# Altium footprint library MLACHP_P.PCBLIB: 129 footprints (part 2 of 9)
Each footprint in its own frame and in the unit in brackets; x right, y up, seen from the top. Pads: shape width x height; smd on the part's side, far side on the other; paste and mask are expansions set on the pad; w line width, h text height; cw(c..) or ccw(c..) is an arc to the next point about the centre after c.
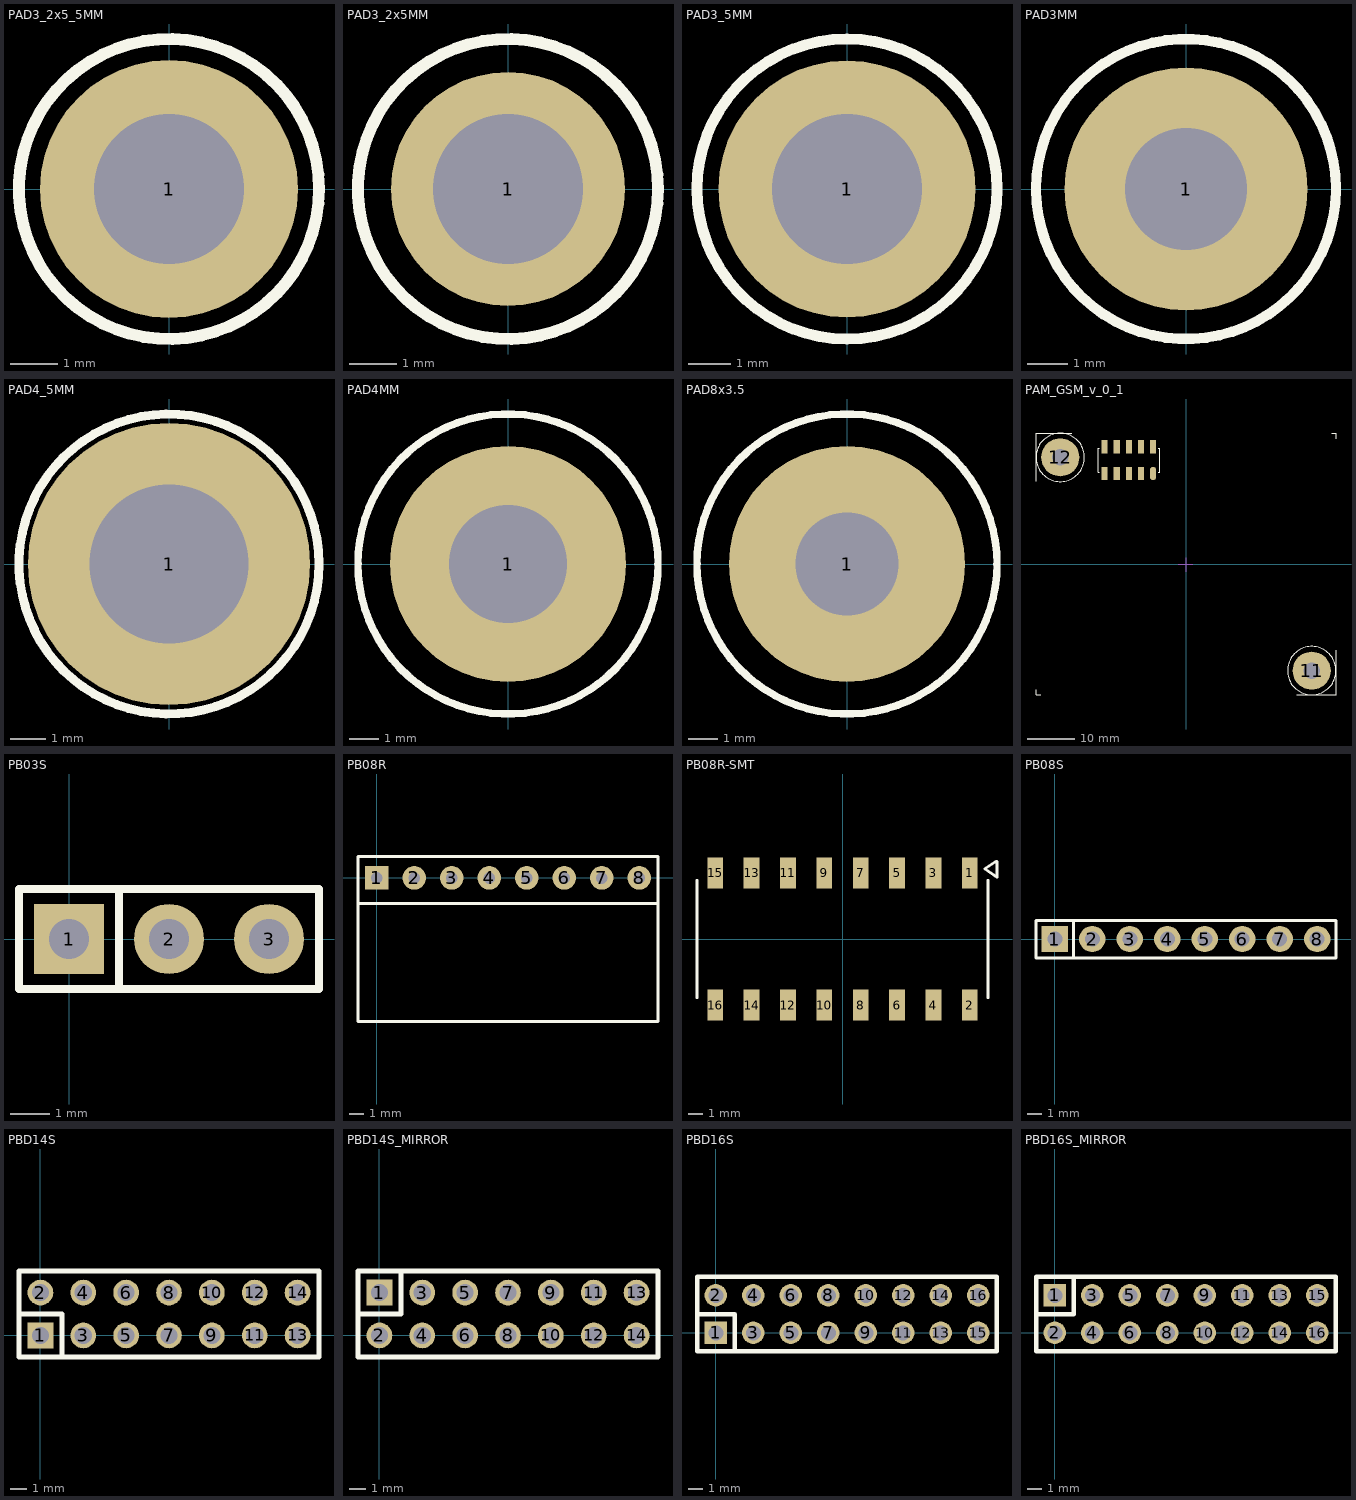
[diagram p1: the footprints below, top view; thin cyan lines are the x and y axes]

## PAD3_2x5_5MM [mm]
pads (1):
  round 5.5 hole 3.2: 1(0,0)
TopOverlay:
  circle w0.254: c0,0 r3.2

## PAD3_2x5MM [mm]
pads (1):
  round 5 hole 3.2: 1(0,0)
TopOverlay:
  circle w0.254: c0,0 r3.2

## PAD3_5MM [mm]
pads (1):
  round 6 hole 3.5: 1(0,0)
TopOverlay:
  circle w0.254: c0,0 r3.5

## PAD3MM [mm]
pads (1):
  round 6 hole 3: 1(0,0)
TopOverlay:
  circle w0.254: c0,0 r3.7

## PAD4_5MM [mm]
pads (1):
  round 8 hole 4.5: 1(0,0)
TopOverlay:
  circle w0.254: c0,0 r4.25

## PAD4MM [mm]
pads (1):
  round 8 hole 4: 1(0,0)
TopOverlay:
  circle w0.254: c0,0 r5.08

## PAD8x3.5 [mm]
pads (1):
  round 8 hole 3.5: 1(0,0)
TopOverlay:
  circle w0.254: c0,0 r5.08

## PAM_GSM_v_0_1 [mm]
pads (12):
  oval 1.27x2.794 smd: 1(-6.92,19.006)
  rect 1.27x2.794 smd: 2(-6.92,24.594) 3(-9.46,19.006) 4(-9.46,24.594) 5(-12,19.006) 6(-12,24.594) 7(-14.54,19.006) 8(-14.54,24.594) 9(-17.08,19.006) 10(-17.08,24.594)
  round 8 hole 3.5: 11(26.4,-22.4) 12(-26.4,22.4)
TopOverlay:
  circle w0.254: c26.4,-22.4 r5.08
  circle w0.254: c-26.4,22.4 r5.08
  lines w0.254: -31.5,-26.4 -31.5,-27.5 -30.5,-27.5 ; -31.5,17.4 -31.5,27.5 -24,27.5 ; -18.223,19.26 -18.477,19.26 -18.477,24.34 -18.223,24.34 ; -5.777,19.26 -5.523,19.26 -5.523,24.34 -5.777,24.34 ; 23.3,-27.5 31.5,-27.5 31.5,-18.1 ; 30.6,27.5 31.5,27.5 31.5,26.3
Mechanical2:
  lines w0.254: -1.6,0 0,0 ; 0,-1.6 0,0 ; 0,1.3 0,0 ; 1.45,0 0,0
3D body: height 0.64, standoff 0, extent -7.301,23.445 -6.539,25.477
3D body: height 17.98, standoff 0, extent -7.301,22.683 -6.539,23.445
3D body: height 0.64, standoff 0, extent -9.841,23.445 -9.079,25.477
3D body: height 17.98, standoff 0, extent -9.841,22.683 -9.079,23.445
3D body: height 0.64, standoff 0, extent -12.381,23.445 -11.619,25.477
3D body: height 17.98, standoff 0, extent -12.381,22.683 -11.619,23.445
3D body: height 0.64, standoff 0, extent -14.921,23.445 -14.159,25.477
3D body: height 17.98, standoff 0, extent -14.921,22.683 -14.159,23.445
3D body: height 0.64, standoff 0, extent -17.461,23.445 -16.699,25.477
3D body: height 17.98, standoff 0, extent -17.461,22.683 -16.699,23.445
3D body: height 0.64, standoff 0, extent -17.461,18.123 -16.699,20.155
3D body: height 17.98, standoff 0, extent -17.461,20.155 -16.699,20.917
3D body: height 0.64, standoff 0, extent -14.921,18.123 -14.159,20.155
3D body: height 17.98, standoff 0, extent -14.921,20.155 -14.159,20.917
3D body: height 0.64, standoff 0, extent -12.381,18.123 -11.619,20.155
3D body: height 17.98, standoff 0, extent -12.381,20.155 -11.619,20.917
3D body: height 0.64, standoff 0, extent -9.841,18.123 -9.079,20.155
3D body: height 17.98, standoff 0, extent -9.841,20.155 -9.079,20.917
3D body: height 3.8, standoff 1.26, extent -18.35,19.266 -5.65,24.346
3D body: height 17.98, standoff 0, extent -7.301,20.155 -6.539,20.917
3D body: height 0.64, standoff 0, extent -7.301,18.123 -6.539,20.155
3D body: height 11.98, standoff 9.44, extent -18.35,19.266 -5.65,24.346

## PB03S [mil]
pads (3):
  rect 70x70 hole 40: 1(0,0)
  round 70 hole 40: 2(100,0) 3(200,0)
TopOverlay:
  lines w8: 50,-50 50,50 ; -50,-50 -50,50 250,50 250,-50 -50,-50
3D body: height 314.96, standoff 0, extent 150,-49.21 200,49.21
3D body: height 314.96, standoff 0, extent 200,-49.21 250,49.21
3D body: height 314.96, standoff 0, extent 50,-49.21 100,49.21
3D body: height 314.96, standoff 0, extent 100,-49.21 150,49.21
3D body: height 314.96, standoff 0, extent 0,-49.21 50,49.21
3D body: height 314.96, standoff 0, extent -50,-49.21 0,49.21

## PB08R [mm]
pads (8):
  rect 1.6x1.6 hole 0.8: 1(0,0)
  round 1.6 hole 0.8: 2(2.54,0) 3(5.08,0) 4(7.62,0) 5(10.16,0) 6(12.7,0) 7(15.24,0) 8(17.78,0)
TopOverlay:
  lines w0.2: -1.27,-1.725 -1.27,1.45 19.05,1.45 19.05,-1.725 ; -1.27,-1.725 19.05,-1.725 ; -1.27,-1.725 -1.27,-9.725 19.05,-9.725 19.05,-1.725
3D body: height 1.43, standoff 1.07, extent 12.4,-1.75 13,0.15
3D body: height 1.43, standoff 1.07, extent 9.86,-1.75 10.46,0.15
3D body: height 1.43, standoff 1.07, extent 7.32,-1.75 7.92,0.15
3D body: height 1.43, standoff 1.07, extent 4.78,-1.75 5.38,0.15
3D body: height 1.43, standoff 1.07, extent 2.24,-1.75 2.84,0.15
3D body: height 1.43, standoff -2, extent -0.3,-0.2 0.3,0.15
3D body: height 2.5, standoff 0, extent -1.27,-9.725 -0.5,-1.725
3D body: height 0.75, standoff 0, extent -0.5,-9.725 0.5,-1.725
3D body: height 2.5, standoff 1.75, extent -0.5,-9.725 0.5,-1.725
3D body: height 2.5, standoff 0, extent 0.5,-9.725 1.27,-1.725
3D body: height 2.5, standoff 0, extent 3.04,-9.725 3.81,-1.725
3D body: height 2.5, standoff 1.75, extent 2.04,-9.725 3.04,-1.725
3D body: height 0.75, standoff 0, extent 2.04,-9.725 3.04,-1.725
3D body: height 2.5, standoff 0, extent 1.27,-9.725 2.04,-1.725
3D body: height 2.5, standoff 0, extent 5.58,-9.725 6.35,-1.725
3D body: height 2.5, standoff 1.75, extent 4.58,-9.725 5.58,-1.725
3D body: height 0.75, standoff 0, extent 4.58,-9.725 5.58,-1.725
3D body: height 2.5, standoff 0, extent 3.81,-9.725 4.58,-1.725
3D body: height 2.5, standoff 0, extent 8.12,-9.725 8.89,-1.725
3D body: height 2.5, standoff 1.75, extent 7.12,-9.725 8.12,-1.725
3D body: height 0.75, standoff 0, extent 7.12,-9.725 8.12,-1.725
3D body: height 2.5, standoff 0, extent 6.35,-9.725 7.12,-1.725
3D body: height 2.5, standoff 0, extent 10.66,-9.725 11.43,-1.725
3D body: height 2.5, standoff 1.75, extent 9.66,-9.725 10.66,-1.725
3D body: height 0.75, standoff 0, extent 9.66,-9.725 10.66,-1.725
3D body: height 2.5, standoff 0, extent 8.89,-9.725 9.66,-1.725
3D body: height 2.5, standoff 0, extent 13.2,-9.725 13.97,-1.725
3D body: height 2.5, standoff 1.75, extent 12.2,-9.725 13.2,-1.725
3D body: height 0.75, standoff 0, extent 12.2,-9.725 13.2,-1.725
3D body: height 2.5, standoff 0, extent 11.43,-9.725 12.2,-1.725
3D body: height 2.5, standoff 0, extent 15.74,-9.725 16.51,-1.725
3D body: height 2.5, standoff 1.75, extent 14.74,-9.725 15.74,-1.725
3D body: height 0.75, standoff 0, extent 14.74,-9.725 15.74,-1.725
3D body: height 2.5, standoff 0, extent 13.97,-9.725 14.74,-1.725
3D body: height 2.5, standoff 0, extent 18.28,-9.725 19.05,-1.725
3D body: height 2.5, standoff 1.75, extent 17.28,-9.725 18.28,-1.725
3D body: height 0.75, standoff 0, extent 17.28,-9.725 18.28,-1.725
3D body: height 2.5, standoff 0, extent 16.51,-9.725 17.28,-1.725
3D body: height 1.43, standoff 1.07, extent -0.3,-1.75 0.3,0.15
3D body: height 1.43, standoff -2, extent 2.24,-0.2 2.84,0.15
3D body: height 1.43, standoff -2, extent 4.78,-0.2 5.38,0.15
3D body: height 1.43, standoff -2, extent 7.32,-0.2 7.92,0.15
3D body: height 1.43, standoff -2, extent 9.86,-0.2 10.46,0.15
3D body: height 1.43, standoff -2, extent 12.4,-0.2 13,0.15
3D body: height 1.43, standoff -2, extent 14.94,-0.2 15.54,0.15
3D body: height 1.43, standoff 1.07, extent 14.94,-1.75 15.54,0.15
3D body: height 1.43, standoff -2, extent 17.48,-0.2 18.08,0.15
3D body: height 1.43, standoff 1.07, extent 17.48,-1.75 18.08,0.15

## PB08R-SMT [mm]
pads (16):
  rect 1.1x2.165 smd: 1(8.89,4.617) 2(8.89,-4.617) 3(6.35,4.617) 4(6.35,-4.617) 5(3.81,4.617) 6(3.81,-4.617) 7(1.27,4.617) 8(1.27,-4.617) 9(-1.27,4.617) 10(-1.27,-4.617) 11(-3.81,4.617) 12(-3.81,-4.617) 13(-6.35,4.617) 14(-6.35,-4.617) 15(-8.89,4.617) 16(-8.89,-4.617)
TopOverlay:
  lines w0.2: -10.16,-4.1 -10.16,4.1 ; 10.16,-4.1 10.16,4.1 ; 9.932,4.909 10.785,4.307 10.785,5.411 10.735,5.411 9.932,4.909
3D body: height 2.05, standoff 0, extent 8.54,4.068 9.24,4.367
3D body: height 0.25, standoff 0, extent 8.54,4.068 9.24,5.25
3D body: height 3.9, standoff 0.5, extent 7.62,-4.1 8.44,4.1
3D body: height 3.9, standoff 2.95, extent 8.44,-4.1 9.34,4.1
3D body: height 3.9, standoff 0.5, extent 9.34,-4.1 10.16,4.1
3D body: height 2.05, standoff 0.5, extent 8.44,-4.1 9.34,4.1
3D body: height 0.25, standoff 0, extent 8.54,-5.25 9.24,-4.068
3D body: height 2.05, standoff 0, extent 8.54,-4.367 9.24,-4.068
3D body: height 2.05, standoff 0, extent 6,-4.367 6.7,-4.068
3D body: height 0.25, standoff 0, extent 6,-5.25 6.7,-4.068
3D body: height 2.05, standoff 0.5, extent 5.9,-4.1 6.8,4.1
3D body: height 3.9, standoff 0.5, extent 6.8,-4.1 7.62,4.1
3D body: height 3.9, standoff 2.95, extent 5.9,-4.1 6.8,4.1
3D body: height 3.9, standoff 0.5, extent 5.08,-4.1 5.9,4.1
3D body: height 0.25, standoff 0, extent 6,4.068 6.7,5.25
3D body: height 2.05, standoff 0, extent 6,4.068 6.7,4.367
3D body: height 2.05, standoff 0, extent 3.46,-4.367 4.16,-4.068
3D body: height 0.25, standoff 0, extent 3.46,-5.25 4.16,-4.068
3D body: height 2.05, standoff 0.5, extent 3.36,-4.1 4.26,4.1
3D body: height 3.9, standoff 0.5, extent 4.26,-4.1 5.08,4.1
3D body: height 3.9, standoff 2.95, extent 3.36,-4.1 4.26,4.1
3D body: height 3.9, standoff 0.5, extent 2.54,-4.1 3.36,4.1
3D body: height 0.25, standoff 0, extent 3.46,4.068 4.16,5.25
3D body: height 2.05, standoff 0, extent 3.46,4.068 4.16,4.367
3D body: height 2.05, standoff 0, extent 0.92,-4.367 1.62,-4.068
3D body: height 0.25, standoff 0, extent 0.92,-5.25 1.62,-4.068
3D body: height 2.05, standoff 0.5, extent 0.82,-4.1 1.72,4.1
3D body: height 3.9, standoff 0.5, extent 1.72,-4.1 2.54,4.1
3D body: height 3.9, standoff 2.95, extent 0.82,-4.1 1.72,4.1
3D body: height 3.9, standoff 0.5, extent 0,-4.1 0.82,4.1
3D body: height 0.25, standoff 0, extent 0.92,4.068 1.62,5.25
3D body: height 2.05, standoff 0, extent 0.92,4.068 1.62,4.367
3D body: height 2.05, standoff 0, extent -1.62,-4.367 -0.92,-4.068
3D body: height 0.25, standoff 0, extent -1.62,-5.25 -0.92,-4.068
3D body: height 2.05, standoff 0.5, extent -1.72,-4.1 -0.82,4.1
3D body: height 3.9, standoff 0.5, extent -0.82,-4.1 0,4.1
3D body: height 3.9, standoff 2.95, extent -1.72,-4.1 -0.82,4.1
3D body: height 3.9, standoff 0.5, extent -2.54,-4.1 -1.72,4.1
3D body: height 0.25, standoff 0, extent -1.62,4.068 -0.92,5.25
3D body: height 2.05, standoff 0, extent -1.62,4.068 -0.92,4.367
3D body: height 2.05, standoff 0, extent -4.16,-4.367 -3.46,-4.068
3D body: height 0.25, standoff 0, extent -4.16,-5.25 -3.46,-4.068
3D body: height 2.05, standoff 0.5, extent -4.26,-4.1 -3.36,4.1
3D body: height 3.9, standoff 0.5, extent -3.36,-4.1 -2.54,4.1
3D body: height 3.9, standoff 2.95, extent -4.26,-4.1 -3.36,4.1
3D body: height 3.9, standoff 0.5, extent -5.08,-4.1 -4.26,4.1
3D body: height 0.25, standoff 0, extent -4.16,4.068 -3.46,5.25
3D body: height 2.05, standoff 0, extent -4.16,4.068 -3.46,4.367
3D body: height 2.05, standoff 0, extent -6.7,-4.367 -6,-4.068
3D body: height 0.25, standoff 0, extent -6.7,-5.25 -6,-4.068
3D body: height 2.05, standoff 0.5, extent -6.8,-4.1 -5.9,4.1
3D body: height 3.9, standoff 0.5, extent -5.9,-4.1 -5.08,4.1
3D body: height 3.9, standoff 2.95, extent -6.8,-4.1 -5.9,4.1
3D body: height 3.9, standoff 0.5, extent -7.62,-4.1 -6.8,4.1
3D body: height 0.25, standoff 0, extent -6.7,4.068 -6,5.25
3D body: height 2.05, standoff 0, extent -6.7,4.068 -6,4.367
3D body: height 2.05, standoff 0, extent -9.24,-4.367 -8.54,-4.068
3D body: height 0.25, standoff 0, extent -9.24,-5.25 -8.54,-4.068
3D body: height 2.05, standoff 0.5, extent -9.34,-4.1 -8.44,4.1
3D body: height 3.9, standoff 0.5, extent -8.44,-4.1 -7.62,4.1
3D body: height 3.9, standoff 2.95, extent -9.34,-4.1 -8.44,4.1
3D body: height 3.9, standoff 0.5, extent -10.16,-4.1 -9.34,4.1
3D body: height 0.25, standoff 0, extent -9.24,4.068 -8.54,5.25
3D body: height 2.05, standoff 0, extent -9.24,4.068 -8.54,4.367

## PB08S [mil]
pads (8):
  rect 70x70 hole 40: 1(0,0)
  round 70 hole 40: 2(100,0) 3(200,0) 4(300,0) 5(400,0) 6(500,0) 7(600,0) 8(700,0)
TopOverlay:
  lines w8: 50,-50 50,50 ; -50,-50 750,-50 750,50 -50,50 -50,-50
3D body: height 314.96, standoff 0, extent -50,-49.21 0,49.21
3D body: height 314.96, standoff 0, extent 0,-49.21 50,49.21
3D body: height 314.96, standoff 0, extent 100,-49.21 150,49.21
3D body: height 314.96, standoff 0, extent 50,-49.21 100,49.21
3D body: height 314.96, standoff 0, extent 200,-49.21 250,49.21
3D body: height 314.96, standoff 0, extent 150,-49.21 200,49.21
3D body: height 314.96, standoff 0, extent 300,-49.21 350,49.21
3D body: height 314.96, standoff 0, extent 250,-49.21 300,49.21
3D body: height 314.96, standoff 0, extent 400,-49.21 450,49.21
3D body: height 314.96, standoff 0, extent 350,-49.21 400,49.21
3D body: height 314.96, standoff 0, extent 500,-49.21 550,49.21
3D body: height 314.96, standoff 0, extent 450,-49.21 500,49.21
3D body: height 314.96, standoff 0, extent 600,-49.21 650,49.21
3D body: height 314.96, standoff 0, extent 550,-49.21 600,49.21
3D body: height 314.96, standoff 0, extent 700,-49.21 750,49.21
3D body: height 314.96, standoff 0, extent 650,-49.21 700,49.21

## PBD14S [mil]
pads (14):
  rect 60x60 hole 40: 1(0,0)
  round 60 hole 40: 2(0,100) 3(100,0) 4(100,100) 5(200,0) 6(200,100) 7(300,0) 8(300,100) 9(400,0) 10(400,100) 11(500,0) 12(500,100) 13(600,0) 14(600,100)
TopOverlay:
  lines w12: -50,50 50,50 50,-50 ; -50,-50 -50,150 650,150 650,-50 -50,-50
3D body: height 314.96, standoff 0, extent -50,-50 0,150
3D body: height 314.96, standoff 0, extent 600,-50 650,150
3D body: height 314.96, standoff 0, extent 500,-50 600,150
3D body: height 314.96, standoff 0, extent 400,-50 500,150
3D body: height 314.96, standoff 0, extent 300,-50 400,150
3D body: height 314.96, standoff 0, extent 200,-50 300,150
3D body: height 314.96, standoff 0, extent 100,-50 200,150
3D body: height 314.96, standoff 0, extent 0,-50 100,150
3D body: height 275.59, standoff -118.11, extent -20,-20 20,20
3D body: height 275.59, standoff -118.11, extent -20,80 20,120
3D body: height 275.59, standoff -118.11, extent 80,80 120,120
3D body: height 275.59, standoff -118.11, extent 80,-20 120,20
3D body: height 275.59, standoff -118.11, extent 180,80 220,120
3D body: height 275.59, standoff -118.11, extent 180,-20 220,20
3D body: height 275.59, standoff -118.11, extent 280,80 320,120
3D body: height 275.59, standoff -118.11, extent 280,-20 320,20
3D body: height 275.59, standoff -118.11, extent 380,80 420,120
3D body: height 275.59, standoff -118.11, extent 380,-20 420,20
3D body: height 275.59, standoff -118.11, extent 480,80 520,120
3D body: height 275.59, standoff -118.11, extent 480,-20 520,20
3D body: height 275.59, standoff -118.11, extent 580,80 620,120
3D body: height 275.59, standoff -118.11, extent 580,-20 620,20

## PBD14S_MIRROR [mil]
pads (14):
  rect 60x60 hole 40: 1(0,100)
  round 60 hole 40: 2(0,0) 3(100,100) 4(100,0) 5(200,100) 6(200,0) 7(300,100) 8(300,0) 9(400,100) 10(400,0) 11(500,100) 12(500,0) 13(600,100) 14(600,0)
TopOverlay:
  lines w12: -50,50 50,50 50,150 ; -50,-50 -50,150 650,150 650,-50 -50,-50
3D body: height 314.96, standoff 0, extent -50,-50 0,150
3D body: height 314.96, standoff 0, extent 600,-50 650,150
3D body: height 314.96, standoff 0, extent 500,-50 600,150
3D body: height 314.96, standoff 0, extent 400,-50 500,150
3D body: height 314.96, standoff 0, extent 300,-50 400,150
3D body: height 314.96, standoff 0, extent 200,-50 300,150
3D body: height 314.96, standoff 0, extent 100,-50 200,150
3D body: height 314.96, standoff 0, extent 0,-50 100,150
3D body: height 275.59, standoff -118.11, extent -20,80 20,120
3D body: height 275.59, standoff -118.11, extent -20,-20 20,20
3D body: height 275.59, standoff -118.11, extent 80,-20 120,20
3D body: height 275.59, standoff -118.11, extent 80,80 120,120
3D body: height 275.59, standoff -118.11, extent 180,-20 220,20
3D body: height 275.59, standoff -118.11, extent 180,80 220,120
3D body: height 275.59, standoff -118.11, extent 280,-20 320,20
3D body: height 275.59, standoff -118.11, extent 280,80 320,120
3D body: height 275.59, standoff -118.11, extent 380,-20 420,20
3D body: height 275.59, standoff -118.11, extent 380,80 420,120
3D body: height 275.59, standoff -118.11, extent 480,-20 520,20
3D body: height 275.59, standoff -118.11, extent 480,80 520,120
3D body: height 275.59, standoff -118.11, extent 580,-20 620,20
3D body: height 275.59, standoff -118.11, extent 580,80 620,120

## PBD16S [mil]
pads (16):
  rect 60x60 hole 40: 1(0,0)
  round 60 hole 40: 2(0,100) 3(100,0) 4(100,100) 5(200,0) 6(200,100) 7(300,0) 8(300,100) 9(400,0) 10(400,100) 11(500,0) 12(500,100) 13(600,0) 14(600,100) 15(700,0) 16(700,100)
TopOverlay:
  lines w12: -50,50 50,50 50,-50 ; -50,-50 -50,150 750,150 750,-50 -50,-50
3D body: height 314.96, standoff 0, extent -50,-50 0,150
3D body: height 314.96, standoff 0, extent 700,-50 750,150
3D body: height 314.96, standoff 0, extent 600,-50 700,150
3D body: height 314.96, standoff 0, extent 500,-50 600,150
3D body: height 314.96, standoff 0, extent 400,-50 500,150
3D body: height 314.96, standoff 0, extent 300,-50 400,150
3D body: height 314.96, standoff 0, extent 200,-50 300,150
3D body: height 314.96, standoff 0, extent 100,-50 200,150
3D body: height 314.96, standoff 0, extent 0,-50 100,150
3D body: height 275.59, standoff -118.11, extent -20,-20 20,20
3D body: height 275.59, standoff -118.11, extent -20,80 20,120
3D body: height 275.59, standoff -118.11, extent 80,80 120,120
3D body: height 275.59, standoff -118.11, extent 80,-20 120,20
3D body: height 275.59, standoff -118.11, extent 180,80 220,120
3D body: height 275.59, standoff -118.11, extent 180,-20 220,20
3D body: height 275.59, standoff -118.11, extent 280,80 320,120
3D body: height 275.59, standoff -118.11, extent 280,-20 320,20
3D body: height 275.59, standoff -118.11, extent 380,80 420,120
3D body: height 275.59, standoff -118.11, extent 380,-20 420,20
3D body: height 275.59, standoff -118.11, extent 480,80 520,120
3D body: height 275.59, standoff -118.11, extent 480,-20 520,20
3D body: height 275.59, standoff -118.11, extent 580,80 620,120
3D body: height 275.59, standoff -118.11, extent 580,-20 620,20
3D body: height 275.59, standoff -118.11, extent 680,80 720,120
3D body: height 275.59, standoff -118.11, extent 680,-20 720,20

## PBD16S_MIRROR [mil]
pads (16):
  rect 60x60 hole 40: 1(0,100)
  round 60 hole 40: 2(0,0) 3(100,100) 4(100,0) 5(200,100) 6(200,0) 7(300,100) 8(300,0) 9(400,100) 10(400,0) 11(500,100) 12(500,0) 13(600,100) 14(600,0) 15(700,100) 16(700,0)
TopOverlay:
  lines w12: -50,50 50,50 50,150 ; -50,-50 750,-50 750,150 -50,150 -50,-50
3D body: height 275.59, standoff -118.11, extent 680,-20 720,20
3D body: height 275.59, standoff -118.11, extent 680,80 720,120
3D body: height 275.59, standoff -118.11, extent 580,-20 620,20
3D body: height 275.59, standoff -118.11, extent 580,80 620,120
3D body: height 275.59, standoff -118.11, extent 480,-20 520,20
3D body: height 275.59, standoff -118.11, extent 480,80 520,120
3D body: height 275.59, standoff -118.11, extent 380,-20 420,20
3D body: height 275.59, standoff -118.11, extent 380,80 420,120
3D body: height 275.59, standoff -118.11, extent 280,-20 320,20
3D body: height 275.59, standoff -118.11, extent 280,80 320,120
3D body: height 275.59, standoff -118.11, extent 180,-20 220,20
3D body: height 275.59, standoff -118.11, extent 180,80 220,120
3D body: height 275.59, standoff -118.11, extent 80,-20 120,20
3D body: height 275.59, standoff -118.11, extent 80,80 120,120
3D body: height 275.59, standoff -118.11, extent -20,80 20,120
3D body: height 275.59, standoff -118.11, extent -20,-20 20,20
3D body: height 314.96, standoff 0, extent 0,-50 100,150
3D body: height 314.96, standoff 0, extent 100,-50 200,150
3D body: height 314.96, standoff 0, extent 200,-50 300,150
3D body: height 314.96, standoff 0, extent 300,-50 400,150
3D body: height 314.96, standoff 0, extent 400,-50 500,150
3D body: height 314.96, standoff 0, extent 500,-50 600,150
3D body: height 314.96, standoff 0, extent 600,-50 700,150
3D body: height 314.96, standoff 0, extent 700,-50 750,150
3D body: height 314.96, standoff 0, extent -50,-50 0,150